# EAGLE library part LM324DR (library LM324DR)
Check prices <https://pricing.snapeda.com/parts/LM324DR/Texas%20Instruments/view-part?ref=eda>
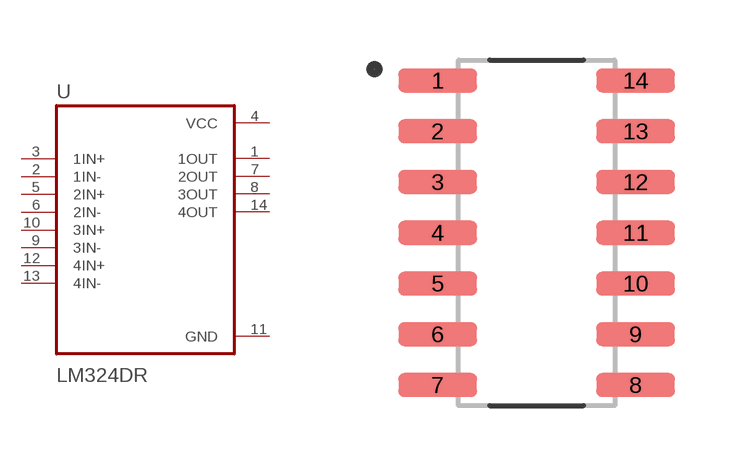
[diagram p0: symbol with the pads of SOIC127P600X175-14N; footprint SOIC127P600X175-14N]

Designator prefix U

## LM324DR (Availability: In Stock; Description: 4-Channel industry standard operational amplifier 14-SOIC 0 to 70; MF: Texas Instruments; MP: LM324DR; Package: SOIC-14 Texas Instruments; Price: None; Purchase-URL: https://pricing.snapeda.com/search/part/LM324DR/?ref=eda)  [SOIC127P600X175-14N]
1  1OUT  out
2  1IN-  in
3  1IN+  in
4  VCC  pwr
5  2IN+  in
6  2IN-  in
7  2OUT  out
8  3OUT  out
9  3IN-  in
10  3IN+  in
11  GND  pwr
12  4IN+  in
13  4IN-  in
14  4OUT  out

## Footprint SOIC127P600X175-14N (pad centres in mm)
smd 1.97 x 0.6: 1 -2.475,3.81; 2 -2.475,2.54; 3 -2.475,1.27; 4 -2.475,0; 5 -2.475,-1.27; 6 -2.475,-2.54; 7 -2.475,-3.81; 8 2.475,-3.81; 9 2.475,-2.54; 10 2.475,-1.27; 11 2.475,0; 12 2.475,1.27; 13 2.475,2.54; 14 2.475,3.81